# EAGLE library part MAX1811 (library tablet)
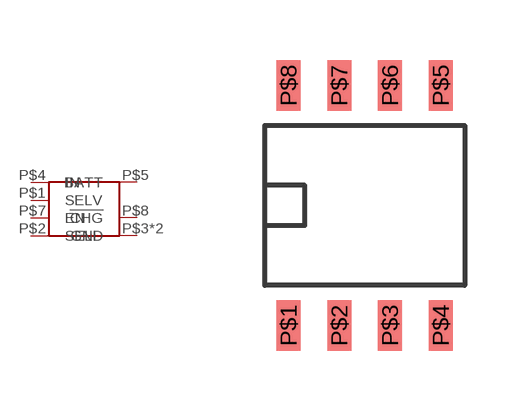
[diagram p1: symbol with the pads of SO8; footprint SO8]

Designator prefix -

## MAX1811  [SO8]
P$1  SELV
P$2  SELI
P$3  GND
P$4  IN
P$5  BATT
P$6  GND
P$7  EN
P$8  !CHG

## Footprint SO8 (pad centres in mm)
smd 0.6 x 1.27: P$1 -1.905,-3; P$2 -0.635,-3; P$3 0.635,-3; P$4 1.905,-3; P$5 1.905,3; P$6 0.635,3; P$7 -0.635,3; P$8 -1.905,3